# Altium footprint library 112-024-113R001.PcbLib: 1 footprints
Each footprint in its own frame and in the unit in brackets; x right, y up, seen from the top. Pads: shape width x height; smd on the part's side, far side on the other; paste and mask are expansions set on the pad; w line width, h text height; cw(c..) or ccw(c..) is an arc to the next point about the centre after c.
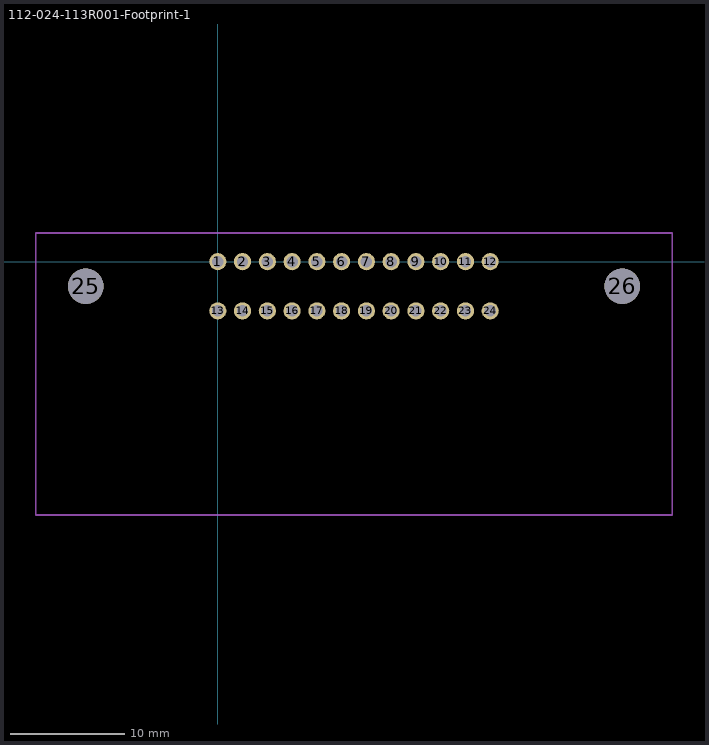
[diagram p0: the footprint, top view; thin cyan lines are the x and y axes]

## 112-024-113R001-Footprint-1 [mil]
pads (26):
  round 59 / inner round 60 / far side round 59 hole 39 paste-99999 mask+0: 1(0,0) 2(85.04,0) 3(170.08,0) 4(255.12,0) 5(340.16,0) 6(425.2,0) 7(510.24,0) 8(595.28,0) 9(680.31,0) 10(765.35,0) 11(850.39,0) 12(935.43,0) 13(0,-168.9) 14(85.04,-168.9) 15(170.08,-168.9) 16(255.12,-168.9) 17(340.16,-168.9) 18(425.2,-168.9) 19(510.24,-168.9) 20(595.28,-168.9) 21(680.31,-168.9) 22(765.35,-168.9) 23(850.39,-168.9) 24(935.43,-168.9)
  round 122 / inner round 60 / far side round 122 hole 122 unplated paste-99999 mask-61: 25(-453.54,-84.45) 26(1388.98,-84.45)
Mechanical 15:
  lines w6: -624.78,-870.22 -624.78,98.78 1560.22,98.78 1560.22,-870.22 -624.78,-870.22
3D body "112-024-113R001.STEP": height 614.67, standoff -176.66, extent -608.27,-874.02 1545.28,86.61